# Altium schematic symbol library W25Q128JVSIQ.SchLib: 1 symbol
Pins are listed as number, name and electrical type; pins without a type are passive.

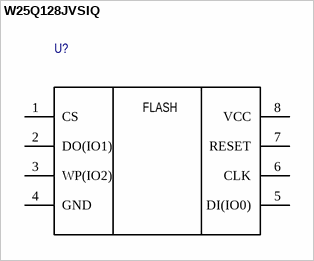
[diagram p0: symbol W25Q128JVSIQ]

## W25Q128JVSIQ
designator U?  (value not drawn)
FLASH - NOR Memory IC 128Mb (16M x 8) SPI - Quad I/O, QPI, DTR 133 MHz 8-SOIC; MF: Winbond Electronics; SnapEDA_Link: https://www.snapeda.com/parts/W25Q128JVSIQ/Winbond/view-part/?ref=snap; Package: SOIC-8 Winbond Electronics; Value: *; MP: W25Q128JVSIQ; Check_prices: https://www.snapeda.com/parts/W25Q128JVSIQ/Winbond/view-part/?ref=eda
footprint SOIC127P790X216-8N
pins: 1 CS (power), 2 DO(IO1) (power), 3 WP(IO2) (power), 4 GND (power), 5 DI(IO0) (power), 6 CLK (power), 7 RESET (power), 8 VCC (power)
text: FLASH